# EAGLE library part POLOLUSTEPPERDRIVER_DRV88XX (library reprap)
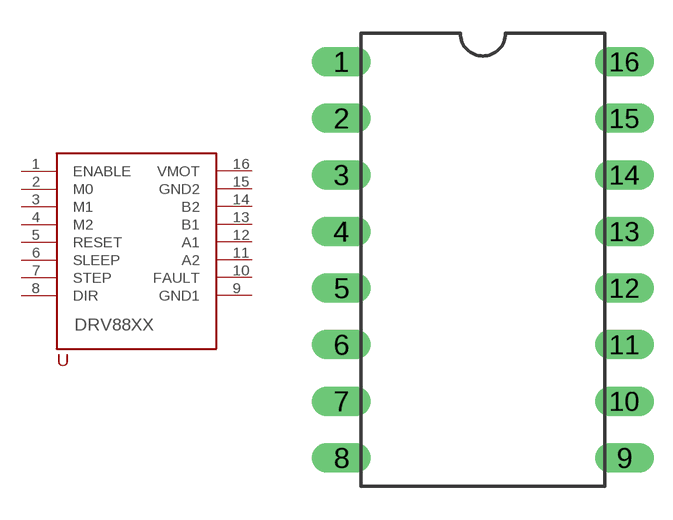
[diagram p13: symbol with the pads of DIL16_MYNUMBERING; footprint DIL16_MYNUMBERING]

Designator prefix -

## POLOLUSTEPPERDRIVER_DRV88XX  [DIL16_MYNUMBERING]
1  ENABLE  in
2  M0  in
3  M1  in
4  M2
5  RESET
6  SLEEP
7  STEP
8  DIR
9  GND1
10  FAULT
11  A2
12  A1
13  B1
14  B2
15  GND2
16  VMOT

## Footprint DIL16_MYNUMBERING (pad centres in mm)
drill 0.813 long: 1 -17.78,8.89; 2 -17.78,6.35; 3 -17.78,3.81; 4 -17.78,1.27; 5 -17.78,-1.27; 6 -17.78,-3.81; 7 -17.78,-6.35; 8 -17.78,-8.89; 9 -5.08,-8.89; 10 -5.08,-6.35; 11 -5.08,-3.81; 12 -5.08,-1.27; 13 -5.08,1.27; 14 -5.08,3.81; 15 -5.08,6.35; 16 -5.08,8.89